# EAGLE library part HRS-FX2B (library ictt-con_v5)
HIROSE FX2 Series 1.27mm Pitch Multi-function Two Piece Connector
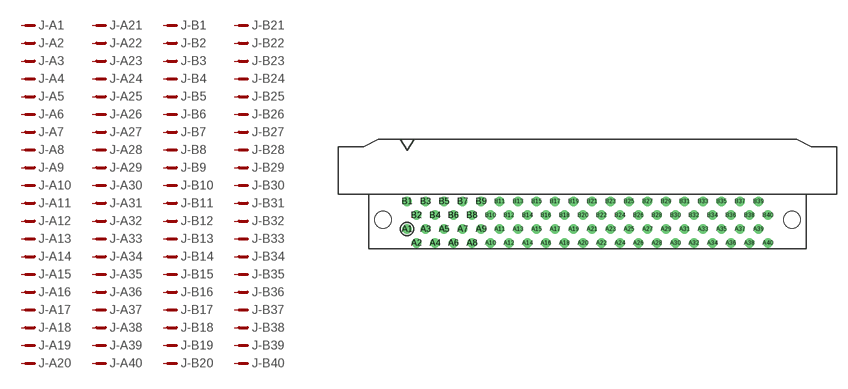
[diagram p0: symbol with the pads of FX2B-080PA-1.27DS(71); footprint FX2B-080PA-1.27DS(71)]

Designator prefix J; gates -A1=PIN -A2=PIN -A3=PIN -A4=PIN -A5=PIN -A6=PIN -A7=PIN -A8=PIN -A9=PIN -A10=PIN -A11=PIN -A12=PIN -A13=PIN -A14=PIN -A15=PIN -A16=PIN -A17=PIN -A18=PIN -A19=PIN -A20=PIN -A21=PIN -A22=PIN -A23=PIN -A24=PIN -A25=PIN -A26=PIN -A27=PIN -A28=PIN -A29=PIN -A30=PIN -A31=PIN -A32=PIN -A33=PIN -A34=PIN -A35=PIN -A36=PIN -A37=PIN -A38=PIN -A39=PIN -A40=PIN -B1=PIN -B2=PIN -B3=PIN -B4=PIN -B5=PIN -B6=PIN -B7=PIN -B8=PIN -B9=PIN -B10=PIN -B11=PIN -B12=PIN -B13=PIN -B14=PIN -B15=PIN -B16=PIN -B17=PIN -B18=PIN -B19=PIN -B20=PIN -B21=PIN -B22=PIN -B23=PIN -B24=PIN -B25=PIN -B26=PIN -B27=PIN -B28=PIN -B29=PIN -B30=PIN -B31=PIN -B32=PIN -B33=PIN -B34=PIN -B35=PIN -B36=PIN -B37=PIN -B38=PIN -B39=PIN -B40=PIN

## HRS-FX2B-080PA-1.27DS*(71)  [FX2B-080PA-1.27DS(71)]
A1  -A1:P$1
A2  -A2:P$1
A3  -A3:P$1
A4  -A4:P$1
A5  -A5:P$1
A6  -A6:P$1
A7  -A7:P$1
A8  -A8:P$1
A9  -A9:P$1
A10  -A10:P$1
A11  -A11:P$1
A12  -A12:P$1
A13  -A13:P$1
A14  -A14:P$1
A15  -A15:P$1
A16  -A16:P$1
A17  -A17:P$1
A18  -A18:P$1
A19  -A19:P$1
A20  -A20:P$1
A21  -A21:P$1
A22  -A22:P$1
A23  -A23:P$1
A24  -A24:P$1
A25  -A25:P$1
A26  -A26:P$1
A27  -A27:P$1
A28  -A28:P$1
A29  -A29:P$1
A30  -A30:P$1
A31  -A31:P$1
A32  -A32:P$1
A33  -A33:P$1
A34  -A34:P$1
A35  -A35:P$1
A36  -A36:P$1
A37  -A37:P$1
A38  -A38:P$1
A39  -A39:P$1
A40  -A40:P$1
B1  -B1:P$1
B2  -B2:P$1
B3  -B3:P$1
B4  -B4:P$1
B5  -B5:P$1
B6  -B6:P$1
B7  -B7:P$1
B8  -B8:P$1
B9  -B9:P$1
B10  -B10:P$1
B11  -B11:P$1
B12  -B12:P$1
B13  -B13:P$1
B14  -B14:P$1
B15  -B15:P$1
B16  -B16:P$1
B17  -B17:P$1
B18  -B18:P$1
B19  -B19:P$1
B20  -B20:P$1
B21  -B21:P$1
B22  -B22:P$1
B23  -B23:P$1
B24  -B24:P$1
B25  -B25:P$1
B26  -B26:P$1
B27  -B27:P$1
B28  -B28:P$1
B29  -B29:P$1
B30  -B30:P$1
B31  -B31:P$1
B32  -B32:P$1
B33  -B33:P$1
B34  -B34:P$1
B35  -B35:P$1
B36  -B36:P$1
B37  -B37:P$1
B38  -B38:P$1
B39  -B39:P$1
B40  -B40:P$1

## Footprint FX2B-080PA-1.27DS(71) (pad centres in mm)
FX2B-80PA-1.27DS*(71) DSL = Lock Pin
drill 0.8 round: A1 -24.765,-1.905; A2 -23.495,-3.81; A3 -22.225,-1.905; A4 -20.955,-3.81; A5 -19.685,-1.905; A6 -18.415,-3.81; A7 -17.145,-1.905; A8 -15.875,-3.81; A9 -14.605,-1.905; A10 -13.335,-3.81; A11 -12.065,-1.905; A12 -10.795,-3.81; A13 -9.525,-1.905; A14 -8.255,-3.81; A15 -6.985,-1.905; A16 -5.715,-3.81; A17 -4.445,-1.905; A18 -3.175,-3.81; A19 -1.905,-1.905; A20 -0.635,-3.81; A21 0.635,-1.905; A22 1.905,-3.81; A23 3.175,-1.905; A24 4.445,-3.81; A25 5.715,-1.905; A26 6.985,-3.81; A27 8.255,-1.905; A28 9.525,-3.81; A29 10.795,-1.905; A30 12.065,-3.81; A31 13.335,-1.905; A32 14.605,-3.81; A33 15.875,-1.905; A34 17.145,-3.81; A35 18.415,-1.905; A36 19.685,-3.81; A37 20.955,-1.905; A38 22.225,-3.81; A39 23.495,-1.905; A40 24.765,-3.81; B1 -24.765,1.905; B2 -23.495,0; B3 -22.225,1.905; B4 -20.955,0; B5 -19.685,1.905; B6 -18.415,0; B7 -17.145,1.905; B8 -15.875,0; B9 -14.605,1.905; B10 -13.335,0; B11 -12.065,1.905; B12 -10.795,0; B13 -9.525,1.905; B14 -8.255,0; B15 -6.985,1.905; B16 -5.715,0; B17 -4.445,1.905; B18 -3.175,0; B19 -1.905,1.905; B20 -0.635,0; B21 0.635,1.905; B22 1.905,0; B23 3.175,1.905; B24 4.445,0; B25 5.715,1.905; B26 6.985,0; B27 8.255,1.905; B28 9.525,0; B29 10.795,1.905; B30 12.065,0; B31 13.335,1.905; B32 14.605,0; B33 15.875,1.905; B34 17.145,0; B35 18.415,1.905; B36 19.685,0; B37 20.955,1.905; B38 22.225,0; B39 23.495,1.905; B40 24.765,0
hole 2.3 at -28.075,-0.635
hole 2.3 at 28.075,-0.635